# Altium footprint library SMA.PcbLib: 1 footprints
Each footprint in its own frame and in the unit in brackets; x right, y up, seen from the top. Pads: shape width x height; smd on the part's side, far side on the other; paste and mask are expansions set on the pad; w line width, h text height; cw(c..) or ccw(c..) is an arc to the next point about the centre after c.
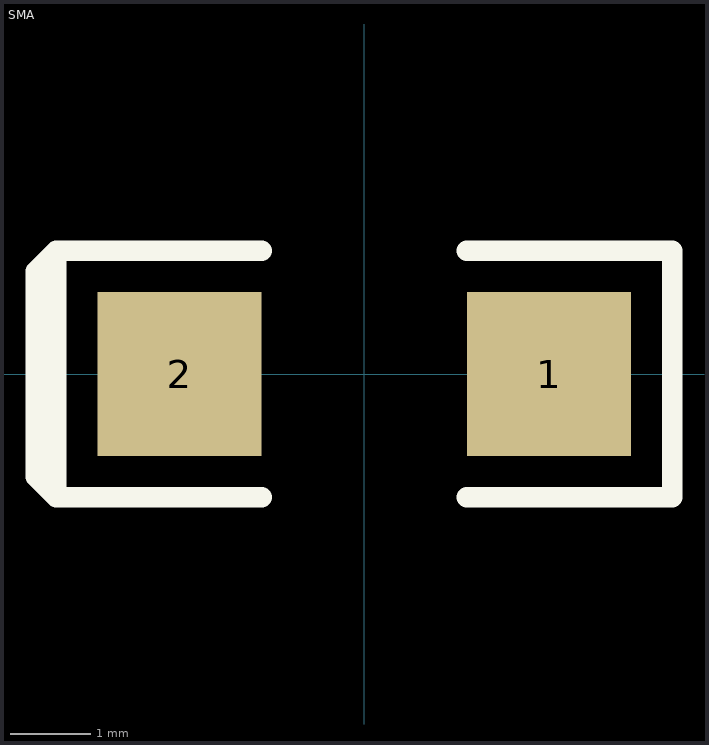
[diagram p0: the footprint, top view; thin cyan lines are the x and y axes]

## SMA [mil] "SMA"
pads (2):
  rect 80x80 smd: 1(90,0) 2(-90,0)
Top Overlay:
  lines w10: -50,-60 -150,-60 ; -50,60 -150,60 ; 50,-60 150,-60 150,60 50,60 ; -150,-60 -150,60 ; -150,-60 -160,-50 -160,50 -150,60